# EAGLE library part S1G9_JUMP (library #PaJa_konektory)
Radove konektory - koliky - 9x
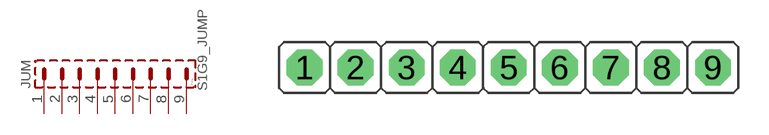
[diagram p22: symbol with the pads of S1G9_JUM; footprint S1G9_JUM]

Designator prefix JUM

## S1G9_JUMP  [S1G9_JUM]
1  1  pas
2  2  pas
3  3  pas
4  4  pas
5  5  pas
6  6  pas
7  7  pas
8  8  pas
9  9  pas

## Footprint S1G9_JUM (pad centres in mm)
drill 0.813 pad 1.778 octagon: 1 -10.16,0; 2 -7.62,0; 3 -5.08,0; 4 -2.54,0; 5 0,0; 6 2.54,0; 7 5.08,0; 8 7.62,0; 9 10.16,0